# EAGLE library part FSA3357K8X (library UPenn)
SPTT analog switch
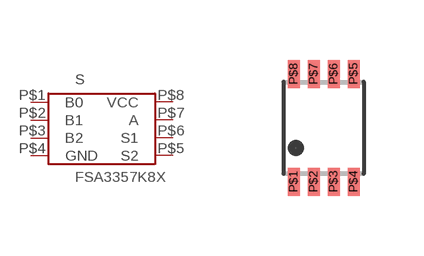
[diagram p7: symbol with the pads of 2.3MM_8PIN; footprint 2.3MM_8PIN]

Designator prefix S

## FSA3357K8X  [2.3MM_8PIN]
P$1  B0
P$2  B1
P$3  B2
P$4  GND
P$5  S2
P$6  S1
P$7  A
P$8  VCC

## Footprint 2.3MM_8PIN (pad centres in mm)
smd 0.3 x 0.7: P$1 -0.75,-1.35; P$2 -0.25,-1.35; P$3 0.25,-1.35; P$4 0.75,-1.35; P$5 0.75,1.35; P$6 0.25,1.35; P$7 -0.25,1.35; P$8 -0.75,1.35